# Altium footprint library Pcblib1final.PcbLib: 2 footprints
Each footprint in its own frame and in the unit in brackets; x right, y up, seen from the top. Pads: shape width x height; smd on the part's side, far side on the other; paste and mask are expansions set on the pad; w line width, h text height; cw(c..) or ccw(c..) is an arc to the next point about the centre after c.
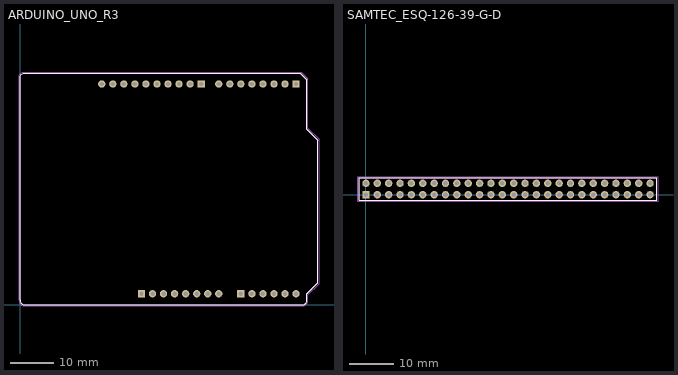
[diagram p0: the footprints below, top view; thin cyan lines are the x and y axes]

## ARDUINO_UNO_R3 [mil]
pads (32):
  round 66 hole 40: 3V3(1400,100) 5V(1500,100) A1(2100,100) A2(2200,100) A3(2300,100) A4(2400,100) A4(SDA)(840,2000) A5(2500,100) A5(SCL)(740,2000) AREF(940,2000) D1(2400,2000) D2(2300,2000) D3(2200,2000) D4(2100,2000) D5(2000,2000) D6(1900,2000) D7(1800,2000) D9(1540,2000) D10(1440,2000) D11(1340,2000) D12(1240,2000) D13(1140,2000) GND_1(1700,100) GND_2(1600,100) GND_3(1040,2000) IOREF(1200,100) RST(1300,100) VIN(1800,100)
  rect 66x66 hole 40: A0(2000,100) D0(2500,2000) D8(1640,2000) P1(1100,100)
Top Overlay:
  lines w5: 0,39.1 0,2058.39 1.67,2069.21 5,2078.38 11.66,2086.71 19.99,2092.54 29.16,2096.7 39.15,2098.37 2538.27,2098.37 2598.25,2038.39 2598.25,1588.55 2698.21,1488.59 2698.21,199.87 2598.25,99.91 2598.25,39.1 2596.58,29.1 2593.25,19.94 2586.59,11.61 2578.26,4.94 2569.09,1.61 2559.09,-0.05 39.15,-0.05 29.16,1.61 19.99,4.94 11.66,11.61 5,19.94 1.67,29.1 0,39.1
Mechanical 13:
  lines w5: 0,39.1 0,2058.39 1.67,2069.21 5,2078.38 11.66,2086.71 19.99,2092.54 29.16,2096.7 39.15,2098.37 2538.27,2098.37 2598.25,2038.39 2598.25,1588.55 2698.21,1488.59 2698.21,199.87 2598.25,99.91 2598.25,39.1 2596.58,29.1 2593.25,19.94 2586.59,11.61 2578.26,4.94 2569.09,1.61 2559.09,-0.05 39.15,-0.05 29.16,1.61 19.99,4.94 11.66,11.61 5,19.94 1.67,29.1 0,39.1
Mechanical 15:
  lines w1.97: -9.84,39.1 -9.84,39.37 -9.84,2068.23 -8.18,2079.06 -4.84,2088.22 1.82,2096.55 10.15,2102.38 19.31,2106.55 29.31,2108.21 2548.11,2108.21 2608.09,2048.23 2608.09,1598.39 2708.06,1498.43 2708.06,190.03 2608.09,90.07 2608.09,39.1 ; -9.83,39.5 ccw(c36.7,36.25) 29.4,-9.82 ; 29.31,-9.9 2559.09,-9.9 ; 2558.61,-9.86 ccw(c2556.81,41.62) 2608.25,38.92

## SAMTEC_ESQ-126-39-G-D [mm]
pads (52):
  rect 1.65x1.65 hole 1.02: 01(0,0)
  round 1.65 hole 1.02: 02(0,2.54) 03(2.54,0) 04(2.54,2.54) 05(5.08,0) 06(5.08,2.54) 07(7.62,0) 08(7.62,2.54) 09(10.16,0) 10(10.16,2.54) 11(12.7,0) 12(12.7,2.54) 13(15.24,0) 14(15.24,2.54) 15(17.78,0) 16(17.78,2.54) 17(20.32,0) 18(20.32,2.54) 19(22.86,0) 20(22.86,2.54) 21(25.4,0) 22(25.4,2.54) 23(27.94,0) 24(27.94,2.54) 25(30.48,0) 26(30.48,2.54) 27(33.02,0) 28(33.02,2.54) 29(35.56,0) 30(35.56,2.54) 31(38.1,0) 32(38.1,2.54) 33(40.64,0) 34(40.64,2.54) 35(43.18,0) 36(43.18,2.54) 37(45.72,0) 38(45.72,2.54) 39(48.26,0) 40(48.26,2.54) 41(50.8,0) 42(50.8,2.54) 43(53.34,0) 44(53.34,2.54) 45(55.88,0) 46(55.88,2.54) 47(58.42,0) 48(58.42,2.54) 49(60.96,0) 50(60.96,2.54) 51(63.5,0) 52(63.5,2.54)
Top Overlay:
  circle w0.2: c2.175,0 r0.1
  lines w0.2: -1.525,-1.205 -1.525,3.745 65.025,3.745 65.025,-1.205 -1.525,-1.205
Mechanical 13:
  circle w0.2: c2.175,0 r0.1
  lines w0.1: -1.525,-1.205 -1.525,3.745 ; -1.525,-1.205 65.025,-1.205 ; -1.525,-1.205 -1.525,3.745 ; -1.525,3.745 65.025,3.745 ; -1.525,3.745 65.025,3.745 ; 65.025,-1.205 65.025,3.745 ; 65.025,-1.205 65.025,3.745
Mechanical 15:
  lines w0.05: -1.775,-1.455 -1.775,3.995 65.275,3.995 65.275,-1.455 -1.775,-1.455